# Altium schematic symbol library Shunt_Resistor_Sch.SchLib: 3 symbols
Pins are listed as number, name and electrical type; pins without a type are passive.

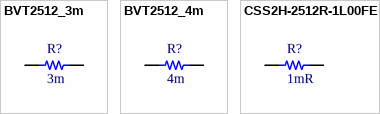
[diagram p0: symbols BVT2512_3m to CSS2H-2512R-1L00FE]

## BVT2512_3m
designator R?, comment 3m
SMT Shunt Resistor 3mOhm %1 6W; Value: 3m
footprint 2512_bvt (Chip Resistor, 2-Leads, Body 6.35x3.00mm, IPC Low Density)
pins: 1, 2

## BVT2512_4m
designator R?, comment 4m
SMT Shunt Resistor 4mOhm %1 6W; Value: 4m
footprint 2512_bvt (Chip Resistor, 2-Leads, Body 6.35x3.00mm, IPC Low Density)
pins: 1, 2

## CSS2H-2512R-1L00FE
designator R?, comment 1mR
Res Metal Strip 2512 0.001 Ohm 1% 5W ±75ppm/°C Pad SMD Automotive T/R; Manufacturer: Bourns; Manufacturer Part Number: CSS2H-2512R-1L00FE; Temperature Coefficient: 50ppm/°C; Supplier 1: Digi-Key; RoHS: Yes; Category: Chip SMD Resistors; Stock 1: 1491; Pricing 1: 1=0.88000, 10=0.77500, 25=0.71240, 50=0.65000, 100=0.56250, 250=0.47500, 500=0.40000 (USD); Case/Package: 2512; Case Code (Imperial): 2512; Case Code (Metric): 6432; Min Operating Temperature: -55°C; Max Operating Temperature: 170°C; Resistor Type: Metal Element; Features: Moisture Resistant; Packaging: Tape and Reel; Resistance: 1mR; Tolerance: 1%; Max Power Dissipation: 5W; Number of Terminations: 2; RoHS Compliant: Yes; ComponentLink1URL: https://www.bourns.com/docs/Product-Datasheets/css2h-2512.pdf?src-supplier=Digi-Key; ComponentLink1Description: https://www.bourns.com/docs/Product-Datasheets/css2h-2512.pdf?src-supplier=Digi-Key
footprint 2512_bvt (Chip Resistor, 2-Leads, Body 6.35x3.00mm, IPC Low Density)
pins: 1, 2